# Altium footprint library Components.PcbLib: 86 footprints (part 2 of 6)
Each footprint in its own frame and in the unit in brackets; x right, y up, seen from the top. Pads: shape width x height; smd on the part's side, far side on the other; paste and mask are expansions set on the pad; w line width, h text height; cw(c..) or ccw(c..) is an arc to the next point about the centre after c.
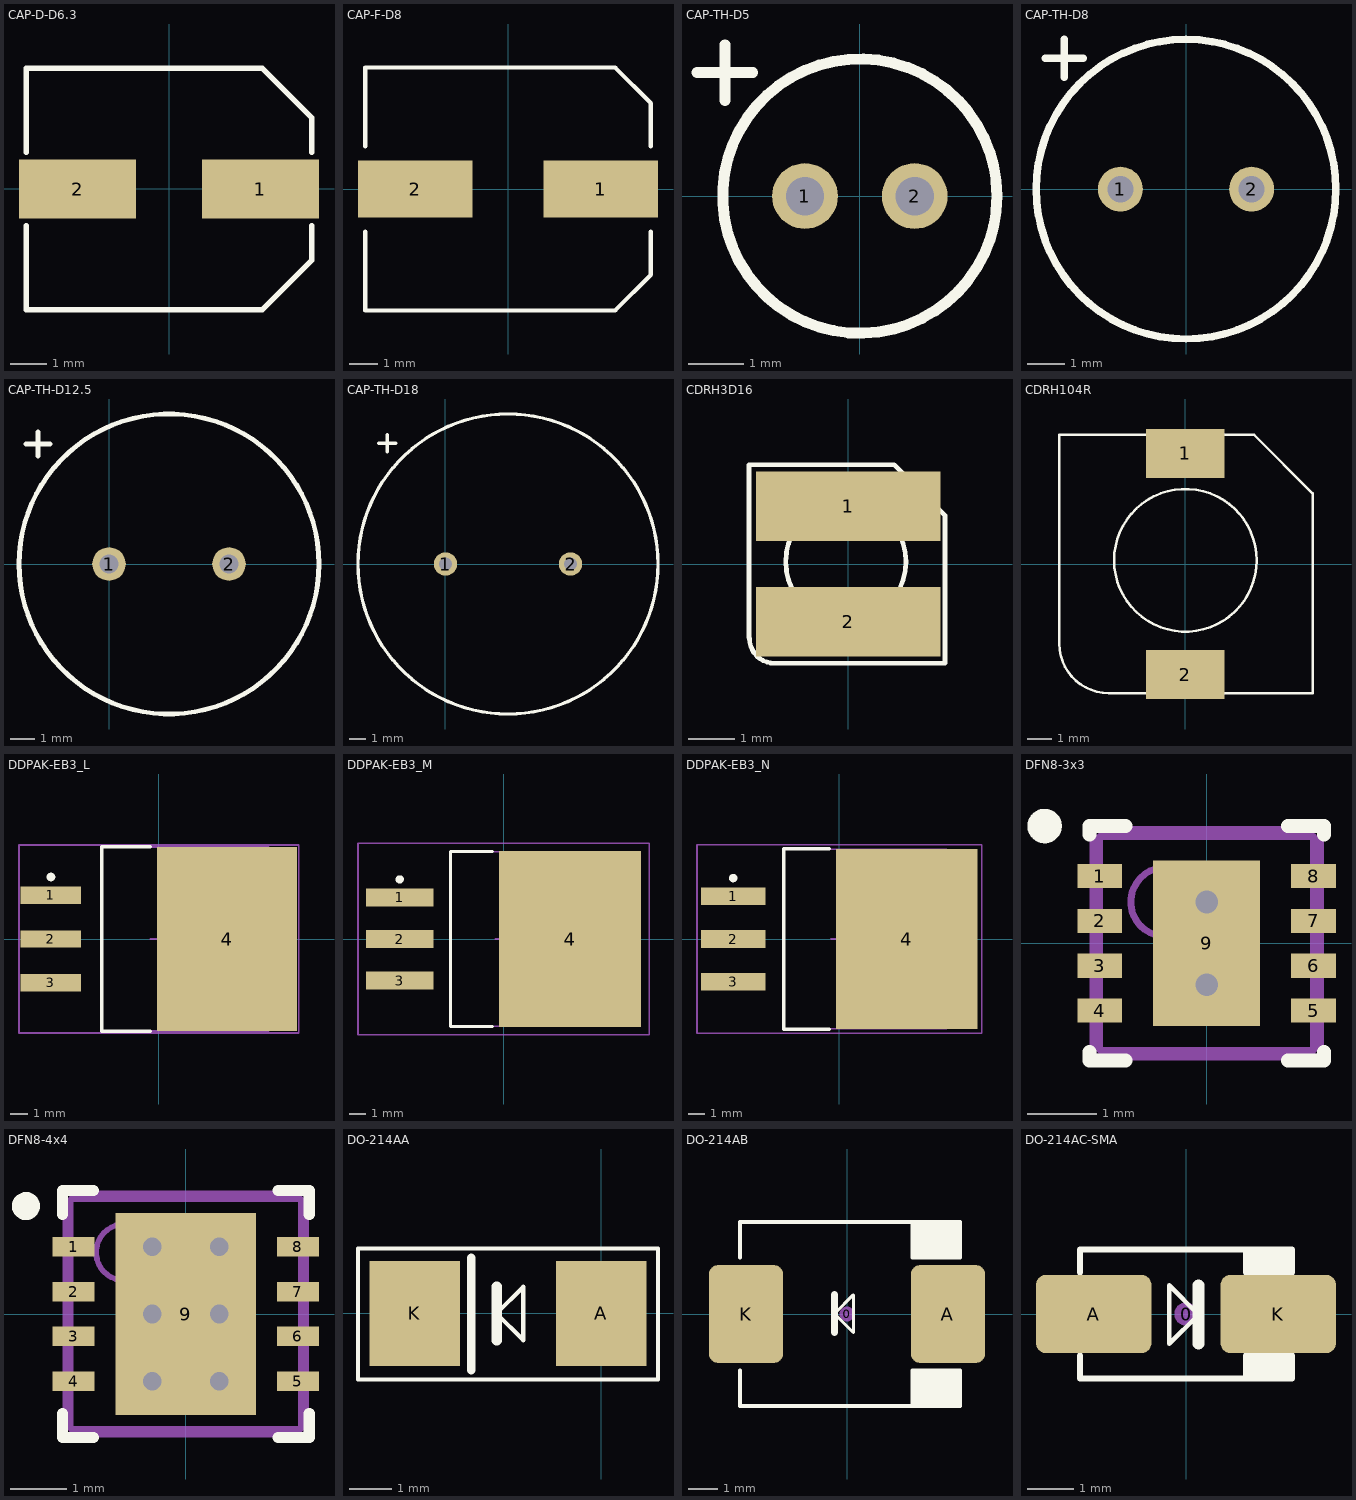
[diagram p1: the footprints below, top view; thin cyan lines are the x and y axes]

## CAP-D-D6.3 [mm]
pads (2):
  rect 3.2x1.6 smd: 1(2.5,-0.007) 2(-2.5,-0.007)
Top Overlay:
  lines w0.15: -3.9,-1.007 -3.9,-3.307 2.55,-3.307 3.9,-1.957 3.9,-1.007 ; -3.9,0.993 -3.9,3.293 2.55,3.293 3.9,1.943 3.9,0.993

## CAP-F-D8 [mm] "Panasonic FK series 'F' size"
height 10
pads (2):
  rect 4x2 smd: 1(3.25,0) 2(-3.25,0)
Top Overlay:
  lines w0.15: -5,-1.5 -5,-4.25 3.75,-4.25 5,-3 5,-1.5 ; -5,1.5 -5,4.25 3.75,4.25 5,3 5,1.5

## CAP-TH-D5 [mm]
pads (2):
  round 1.2 hole 0.7: 1(-1,0) 2(1,0)
Top Overlay:
  circle w0.2: c0,0 r2.5
  lines w0.2: -2.968,2.25 -1.952,2.25 ; -2.46,1.742 -2.46,2.758

## CAP-TH-D8 [mm]
pads (2):
  round 1.2 hole 0.7: 1(-1.75,0) 2(1.75,0)
Top Overlay:
  circle w0.2: c0,0 r4
  lines w0.2: -3.758,3.5 -2.742,3.5 ; -3.25,2.992 -3.25,4.008

## CAP-TH-D12.5 [mm]
pads (2):
  round 1.4 hole 0.8: 1(0,0) 2(5,0)
Top Overlay:
  circle w0.2: c2.5,0 r6.25
  lines w0.2: -3.468,5 -2.452,5 ; -2.96,4.492 -2.96,5.508

## CAP-TH-D18 [mm]
pads (2):
  round 1.4 hole 0.8: 1(0,0) 2(7.5,0)
Top Overlay:
  circle w0.2: c3.75,0 r9
  lines w0.2: -4.008,7.25 -2.992,7.25 ; -3.5,6.742 -3.5,7.758

## CDRH3D16 [mm]
pads (2):
  rect 4x1.5 smd: 1(0,1.25) 2(0,-1.25)
Top Overlay:
  circle w0.102: c-0.05,0.05 r1.302
  lines w0.102: -2.15,-1.6 -2.15,2.15 1,2.15 2.1,1.05 2.1,-2.15 -1.6,-2.15 cw(c-1.6,-1.613) -2.137,-1.613
3D body: height 2, standoff 0, extent -2.025,-2.015 2.015,2.025

## CDRH104R [mm]
pads (2):
  rect 3.2x2 smd: 1(0,4.5) 2(0,-4.5)
Top Overlay:
  circle w0.102: c0,0.15 r2.9
  lines w0.102: -5.125,-3.25 ccw(c-3.125,-3.25) -3.125,-5.25 5.175,-5.25 5.175,2.875 2.8,5.25 -5.125,5.25 -5.125,-3.25
3D body: height 4, standoff 0, extent -5.125,-5.25 5.175,5.25

## DDPAK-EB3_L [mm] "D2-PAK, 4-Leads, Body 9x10.2mm, Pitch 2.54mm, Lead Span 14.9mm, IPC High Density"
height 4.83
pads (4):
  rect 3.5x1 smd: 1(-6.25,2.54) 2(-6.25,0) 3(-6.25,-2.54)
  rect 8.1x10.65 smd: 4(3.95,0)
Top Overlay:
  circle w0.25: c-6.25,3.59 r0.125
  lines w0.2: -0.5,-5.35 -3.3,-5.35 -3.3,5.35 -0.5,5.35
Mechanical 13:
  lines w0.1: -3.3,-5.325 -3.3,5.325 6.35,5.325 6.35,-5.325 -3.3,-5.325
Mechanical 15:
  lines w0.1: -0.5,0 0.5,0 ; 0,-0.5 0,0.5 ; -8.1,-5.45 -8.1,5.45 8.1,5.45 8.1,-5.45 -8.1,-5.45
3D body: height 4.83, standoff 0, extent -3.3,-5.325 6.35,5.325

## DDPAK-EB3_M [mm] "D2-PAK, 4-Leads, Body 9x10.2mm, Pitch 2.54mm, Lead Span 14.9mm, IPC Low Density"
height 4.83
pads (4):
  rect 4.1x1.1 smd: 1(-6.35,2.54) 2(-6.35,0) 3(-6.35,-2.54)
  rect 8.7x10.75 smd: 4(4.05,0)
Top Overlay:
  circle w0.25: c-6.35,3.64 r0.125
  lines w0.2: -0.7,-5.35 -3.25,-5.35 -3.25,5.35 -0.7,5.35
Mechanical 13:
  lines w0.1: -3.25,-5.325 -3.25,5.325 6.4,5.325 6.4,-5.325 -3.25,-5.325
Mechanical 15:
  lines w0.1: -0.5,0 0.5,0 ; 0,-0.5 0,0.5 ; -8.9,-5.85 -8.9,5.85 8.9,5.85 8.9,-5.85 -8.9,-5.85
3D body: height 4.83, standoff 0, extent -3.25,-5.325 6.4,5.325

## DDPAK-EB3_N [mm] "D2-PAK, 4-Leads, Body 9x10.2mm, Pitch 2.54mm, Lead Span 14.9mm, IPC Medium Density"
height 4.83
pads (4):
  rect 3.8x1.05 smd: 1(-6.3,2.54) 2(-6.3,0) 3(-6.3,-2.54)
  rect 8.4x10.7 smd: 4(4,0)
Top Overlay:
  circle w0.25: c-6.3,3.615 r0.125
  lines w0.2: -0.6,-5.35 -3.3,-5.35 -3.3,5.35 -0.6,5.35
Mechanical 13:
  lines w0.1: -3.3,-5.325 -3.3,5.325 6.35,5.325 6.35,-5.325 -3.3,-5.325
Mechanical 15:
  lines w0.1: -0.5,0 0.5,0 ; 0,-0.5 0,0.5 ; -8.45,-5.6 -8.45,5.6 8.45,5.6 8.45,-5.6 -8.45,-5.6
3D body: height 4.83, standoff 0, extent -3.3,-5.325 6.35,5.325

## DFN8-3x3 [mm] "SON, 8-Leads, Body 3x3mm, Pitch 0.65mm, Microchip Recommended"
height 1
pads (9):
  rect 0.65x0.35 smd: 1(-1.55,0.975) 2(-1.55,0.325) 3(-1.55,-0.325) 4(-1.55,-0.975) 5(1.55,-0.975) 6(1.55,-0.325) 7(1.55,0.325) 8(1.55,0.975)
  rect 1.55x2.4 smd: 9(0,0)
via 0,0.6 diameter 0.66 hole 0.33
via 0,-0.6 diameter 0.66 hole 0.33
Top Overlay:
  circle w0.25: c-2.35,1.7 r0.125
  lines w0.2: -1.7,-1.575 -1.7,-1.7 -1.175,-1.7 ; -1.7,1.575 -1.7,1.7 -1.175,1.7 ; 1.175,-1.7 1.7,-1.7 1.7,-1.575 ; 1.175,1.7 1.7,1.7 1.7,1.575
Mechanical 13:
  circle w0.1: c-0.6,0.6 r0.5
  lines w0.1: -1.55,-1.55 -1.55,1.55 1.55,1.55 1.55,-1.55 -1.55,-1.55
Mechanical 15:
  lines w0.1: -0.5,0 0.5,0 ; 0,-0.5 0,0.5 ; -1.65,-1.65 -1.65,1.65 1.65,1.65 1.65,-1.65 -1.65,-1.65
3D body: height 1, standoff 0, extent -1.55,-1.55 1.55,1.55

## DFN8-4x4 [mm] "SON, 8-Leads, Body 4x4mm, Pitch 0.8mm, Microchip Recommended"
height 1
pads (9):
  rect 0.75x0.35 smd: 1(-2,1.2) 2(-2,0.4) 3(-2,-0.4) 4(-2,-1.2) 5(2,-1.2) 6(2,-0.4) 7(2,0.4) 8(2,1.2)
  rect 2.5x3.6 smd: 9(0,0)
via 0.6,-1.2 diameter 0.66 hole 0.33
via -0.6,-1.2 diameter 0.66 hole 0.33
via 0.6,0 diameter 0.66 hole 0.33
via -0.6,0 diameter 0.66 hole 0.33
via 0.6,1.2 diameter 0.66 hole 0.33
via -0.6,1.2 diameter 0.66 hole 0.33
Top Overlay:
  circle w0.25: c-2.85,1.925 r0.125
  lines w0.2: -2.2,-1.775 -2.2,-2.2 -1.65,-2.2 ; -2.2,1.775 -2.2,2.2 -1.65,2.2 ; 1.65,-2.2 2.2,-2.2 2.2,-1.775 ; 1.65,2.2 2.2,2.2 2.2,1.775
Mechanical 13:
  circle w0.1: c-1.1,1.1 r0.5
  lines w0.1: -2.05,-2.05 2.05,-2.05 2.05,2.05 -2.05,2.05 -2.05,-2.05
Mechanical 15:
  lines w0.1: -0.5,0 0.5,0 ; 0,-0.5 0,0.5 ; -2.15,-2.15 2.15,-2.15 2.15,2.15 -2.15,2.15 -2.15,-2.15
3D body: height 1, standoff 0, extent -2.05,-2.05 2.05,2.05

## DO-214AA [mm]
pads (2):
  rect 2.16x2.5 smd: A(0,0) K(-4.45,0)
Top Overlay:
  lines w0.102: -5.8,-1.575 1.35,-1.575 1.35,1.55 -5.8,1.55 -5.8,-1.575 ; -2.496,0 -1.861,-0.635 -1.861,0 -1.861,0.635 -2.496,0
  lines w0.2: -3.1,-1.35 -3.1,1.325
  lines w0.25: -2.496,-0.635 -2.496,0 -2.496,0.635
3D body: height 1.1, standoff 0, extent 0.1,-0.825 0.4,0.8
3D body: height 1.1, standoff 0.7, extent -0.025,-0.825 0.4,0.8
3D body: height 0.3, standoff 0, extent -0.575,-0.825 0.4,0.8
3D body: height 0.3, standoff 0, extent -4.9,-0.825 -3.925,0.8
3D body: height 1.1, standoff 0.7, extent -4.9,-0.825 -4.475,0.8
3D body: height 1.1, standoff 0, extent -4.9,-0.825 -4.6,0.8
3D body: height 2.23, standoff 2.2, extent -3.912,-1.25 -3.537,1.25
3D body: height 2.2, standoff 0.5, extent -4.5,-1.45 0,1.425
3D body: height 0.5, standoff 0, extent -2.775,-1.45 -1.675,1.425
3D body: height 2, standoff 0.4, extent -4.5,-1.45 0,1.425

## DO-214AB [mm] "JEDEC DO214 variation AB. SMC"
height 2.5
pads (3):
  round 0.508 on Mech15: 0(0,0)
  rrect25% 2.5x3.3 smd: A(3.4,0) K(-3.4,0)
Top Overlay:
  rectangle: 2.2,1.9 3.8,3.1
  rectangle: 2.2,-3.1 3.8,-1.9
  lines w0.102: -0.421,0.013 0.214,0.648 0.214,0.013 0.214,-0.622 -0.421,0.013
  lines w0.127: -3.6,-1.9 -3.6,-3.1 3.8,-3.1 3.8,-1.9 2.2,-1.9 2.2,-3.1 ; -3.6,1.9 -3.6,3.1 3.8,3.1 3.8,1.9 2.2,1.9 2.2,3.1
  lines w0.25: -0.421,-0.622 -0.421,0.013 -0.421,0.648
3D body: height 2.62, standoff 0.01, extent -3.975,-2.975 4.05,2.975

## DO-214AC-SMA [mm] "JEDEC DO214 variation AC. SMA"
height 2.5
pads (3):
  round 0.508 on Mech15: 0(0,0)
  rrect25% 2.5x1.7 smd: A(-2,0) K(2,0)
Top Overlay:
  rectangle: 1.3,0.9 2.3,1.4
  rectangle: 1.3,-1.4 2.3,-0.9
  lines w0.102: -0.364,-0.648 -0.364,-0.013 -0.364,0.622 0.271,-0.013 -0.364,-0.648
  lines w0.127: -2.3,-0.9 -2.3,-1.4 2.3,-1.4 2.3,-0.9 1.3,-0.9 1.3,-1.4 ; -2.3,0.9 -2.3,1.4 2.3,1.4 2.3,0.9 1.3,0.9 ; 1.3,0.911 1.3,1.4
  lines w0.25: 0.271,-0.648 0.271,-0.013 0.271,0.622
3D body: height 2.42, standoff 0.02, extent -2.6,-1.3 2.6,1.3